# Altium footprint library Dual Zone Heater - 6mil 3mil.PcbLib: 6 footprints
Each footprint in its own frame and in the unit in brackets; x right, y up, seen from the top. Pads: shape width x height; smd on the part's side, far side on the other; paste and mask are expansions set on the pad; w line width, h text height; cw(c..) or ccw(c..) is an arc to the next point about the centre after c.
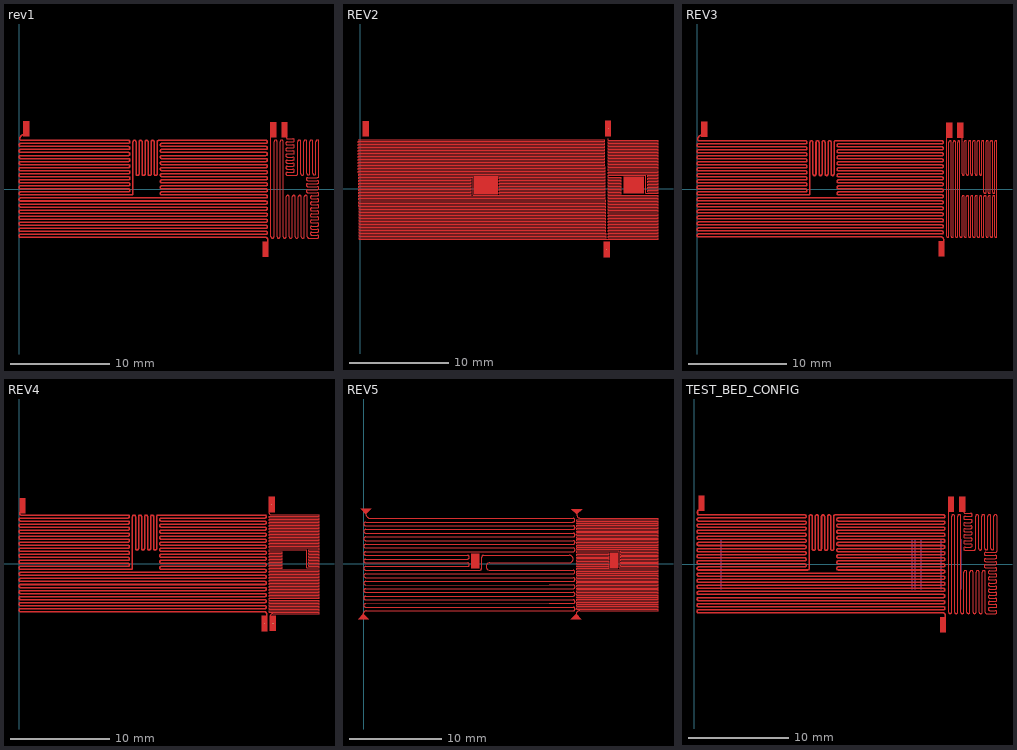
[diagram p0: the footprints below, top view; thin cyan lines are the x and y axes]

## rev1 [mil] "valve heater: 3 mil, 4.93 x 10mm / amp heater: 6 mil, 25.02 x 10mm"
pads (4):
  round 1 smd paste-99999: 1(28,239) 2(975,-238) 3(1006,235) 4(1050,235)
Top Layer:
  region: 39,209 39,269 16,269 16,209
  region: 986,-268 986,-208 963,-208 963,-268
  region: 1017,205 1017,265 994,265 994,205
  region: 1061,205 1061,265 1038,265 1038,205
  lines w3: 996,212 996,-188 ccw(c1002,-188) 1008,-188 1008,188 cw(c1014,188) 1020,188 1020,-188 ccw(c1026,-188) 1032,-188 1032,188 cw(c1038,188) 1044,188 1044,-188 ccw(c1050,-188) 1056,-188 1056,-31 cw(c1062,-31) 1068,-31 1068,-188 ccw(c1074,-188) 1080,-188 1080,-31 cw(c1086,-31) 1092,-31 1092,-188 ccw(c1098,-188) 1104,-188 1104,-31 cw(c1110,-31) 1116,-31 1116,-188 ccw(c1122,-188) 1128,-188 1128,-31 cw(c1134,-31) 1140,-31 1140,-188 ccw(c1146,-188) 1145.78,-194 1180,-194 ccw(c1180,-188) 1180,-182 1158,-182 cw(c1158,-176) 1158,-170 1180,-170 ccw(c1180,-164) 1180,-158 1158,-158 cw(c1158,-152) 1158,-146 1180,-146 ccw(c1180,-140) 1180,-134 1158,-134 cw(c1158,-128) 1158,-122 1180,-122 ccw(c1180,-116) 1180,-110 1158,-110 cw(c1158,-104) 1158,-98 1180,-98 ccw(c1180,-92) 1180,-86 1158,-86 cw(c1158,-80) 1158,-74 1180,-74 ccw(c1180,-68) 1180,-62 1158,-62 cw(c1158,-56) 1158,-50 1180,-50 ccw(c1180,-44) 1180,-38 1158,-38 cw(c1158,-32) 1158,-26 1180,-26 ccw(c1180,-20) 1180,-14 1142,-14 cw(c1142,-8) 1142,-2 1180,-2 ccw(c1180,4) 1180,10 1142,10 cw(c1142,16) 1142,22 1180,22 ccw(c1180,28) 1180,34 1142,34 cw(c1142,40) 1142,46 1180,46 ccw(c1180,52) 1186,52 1186,188 ccw(c1180,188) 1174,188 1174,61.96 cw(c1168,61.96) 1162,61.96 1162,188 ccw(c1156,188) 1150,188 1150,61.88 cw(c1144,61.88) 1138,61.88 1138,188 ccw(c1132,188) 1126,188 1126,61.1 cw(c1120,61.1) 1114,61.1 1114,188 ccw(c1108,188) 1102,188 1102,61 cw(c1096,61) 1096,55 1061,55 cw(c1061,61) 1061,67 1083,67 ccw(c1083,73) 1083,79 1061,79 cw(c1061,85) 1061,91 1082.69,91 ccw(c1082.69,97) 1082.69,103 1060.69,103 cw(c1060.69,109) 1060.69,115 1082.69,115 ccw(c1082.69,121) 1082.69,127 1060.69,127 cw(c1060.69,133) 1060.69,139 1082.69,139 ccw(c1082.69,145) 1082.69,151 1060.69,151 cw(c1060.69,157) 1060.69,163 1082.69,163 ccw(c1082.69,169) 1082.69,175 1060.69,175 cw(c1060.69,181) 1060.69,187 1082.69,187 ccw(c1082.69,193) 1082.69,199 1060.69,199 cw(c1060.69,201.69) 1058,201.69 1058,210 ccw(c1057,210) 1057,211
  lines w6: 21,217 ccw(c21,198) 2,198 ccw(c7,198) 7,193 432,193 cw(c432,187) 432,181 5,181 ccw(c5,175) 5,169 432,169 cw(c432,163) 432,157 5,157 ccw(c5,151) 5,145 433,145 ; 431,13 5,13 ccw(c5,7) 5,1 432,1 cw(c432,-5) 432,-11 5,-11 ccw(c5,-17) 5,-23 444,-23 ccw(c444,-17) 450,-17 450,187 cw(c456,187) 462,187 462,60 ccw(c468,60) 474,60 474,187 cw(c480,187) 486,187 486,60 ccw(c492,60) 498,60 498,187 cw(c504,187) 510,187 510,60 ccw(c516,60) 522,60 522,187 cw(c528,187) 534,187 ; 432,13 ccw(c432,19) 432,25 5,25 cw(c5,31) 5,37 433,37 ; 432,37 ccw(c432,43) 432,49 5,49 cw(c5,55) 5,61 432,61 ccw(c432,67) 432,73 ; 432,97 cw(c432,91) 432,85 5,85 ccw(c5,79) 5,73 433,73 ; 432,121 cw(c432,115) 432,109 5,109 ccw(c5,103) 5,97 433,97 ; 432,133 ccw(c432,139) 432,145 ; 433,121 5,121 cw(c5,127) 5,133 433,133 ; 534,186 534,60 ccw(c540,60) 546,60 546,187 cw(c552,187) 552,193 976,193 cw(c976,187) 976,181 564,181 ccw(c564,175) 564,169 976,169 cw(c976,163) 976,157 564,157 ccw(c564,151) 564,145 976,145 cw(c976,139) 976,133 564,133 ccw(c564,127) 564,121 976,121 cw(c976,115) 976,109 564,109 ccw(c564,103) 564,97 976,97 cw(c976,91) 976,85 564,85 ccw(c564,79) 564,73 976,73 cw(c976,67) 976,61 564,61 ccw(c564,55) 564,49 976,49 cw(c976,43) 976,37 564,37 ccw(c564,31) 564,25 976,25 cw(c976,19) 976,13 564,13 ccw(c564,7) 564,1 976,1 cw(c976,-5) 976,-11 564,-11 ccw(c564,-17) 564,-23 976,-23 cw(c976,-29) 976,-35 5,-35 ccw(c5,-41) 5,-47 976,-47 cw(c976,-53) 976,-59 ; 974.4,-191 cw(c974.4,-199.6) 983,-199.6 983,-214.26 ; 975,-191 5,-191 cw(c5,-185) 5,-179 976,-179 ccw(c976,-173) 976,-167 5,-167 cw(c5,-161) 5,-155 976,-155 ccw(c976,-149) 976,-143 ; 976,-83 ccw(c976,-77) 976,-71 5,-71 cw(c5,-65) 5,-59 977,-59 ; 977,-143 5,-143 cw(c5,-137) 5,-131 976,-131 ccw(c976,-125) 976,-119 5,-119 cw(c5,-113) 5,-107 976,-107 ccw(c976,-101) 976,-95 5,-95 cw(c5,-89) 5,-83 977,-83

## REV2 [mil]
pads (3):
  round 1 smd paste-99999: 1(23,238) 2(980.11,-241.88) 3(984.79,238.46)
Top Layer:
  rectangle: 453,-23.77 547,47
  rectangle: 1046,-20 1127,47
  region: 991.11,-271.88 991.11,-211.88 968.11,-211.88 968.11,-271.88
  region: 34,208 34,268 11,268 11,208
  region: 995.79,208.46 995.79,268.46 972.79,268.46 972.79,208.46
  lines w3: -8,194 24,194 971,194 971,188 947,188 -8,188 -8,182.03 971.18,182.03 971.18,176.03 947.18,176.03 -7.82,176.03 -7.82,170.06 971.36,170.06 971.36,164.06 947.36,164.06 -7.64,164.06 -7.64,158.1 971.54,158.1 971.54,152.1 947.54,152.1 -7.46,152.1 -7.46,146.13 971.72,146.13 971.72,140.13 947.72,140.13 -7.28,140.13 -7.28,134.16 971.9,134.16 971.9,128.16 947.9,128.16 -7.1,128.16 -7.1,122.19 972.08,122.19 972.08,116.19 948.08,116.19 -6.92,116.19 -6.92,110.22 972.27,110.22 972.27,104.22 948.27,104.22 -6.73,104.22 -6.73,98.26 972.45,98.26 972.45,92.26 948.45,92.26 -6.55,92.26 -6.55,86.29 972.63,86.29 972.63,80.29 948.63,80.29 -6.37,80.29 -6.37,74.32 972.81,74.32 972.81,68.32 948.81,68.32 -6.19,68.32 -6.19,62.35 972.99,62.35 972.99,56.35 948.99,56.35 -6.01,56.35 -6.01,50.38 973.17,50.38 973.17,44.38 949.17,44.38 552.14,44.38 552.14,38.42 973.35,38.42 973.35,32.42 949.35,32.42 552.32,32.42 552.32,26.45 973.53,26.45 973.53,20.45 949.53,20.45 552.5,20.45 552.5,14.48 973.71,14.48 973.71,8.48 949.71,8.48 552.68,8.48 552.68,2.51 973.89,2.51 973.89,-3.49 949.89,-3.49 552.86,-3.49 552.86,-9.46 974.07,-9.46 974.07,-15.46 950.07,-15.46 553.04,-15.46 553.04,-21.42 974.25,-21.42 974.25,-27.42 950.25,-27.42 553.23,-27.42 449.42,-27.42 449.42,44.38 -5.83,44.38 -5.83,38.42 ; -7.82,182.03 24.18,182.03 ; -7.64,170.06 24.36,170.06 ; -7.46,158.1 24.54,158.1 ; -7.28,146.13 24.72,146.13 ; -7.1,134.16 24.9,134.16 ; -6.92,122.19 25.08,122.19 ; -6.73,110.22 25.27,110.22 ; -6.55,98.26 25.45,98.26 ; -6.37,86.29 25.63,86.29 ; -6.19,74.32 25.81,74.32 ; -6.01,62.35 25.99,62.35 ; -5.83,50.38 26.17,50.38 ; -5.65,26.45 -5.65,32.42 441,32.42 441,38.42 26.35,38.42 -5.65,38.42 ; -5.47,26.45 26.53,26.45 441.05,26.45 441.05,20.45 -5.47,20.45 ; -5.29,2.51 -5.29,8.48 441.24,8.48 441.24,14.48 -5.47,14.48 ; -5.29,14.48 26.71,14.48 ; -5.11,-9.46 -5.11,-3.49 441.41,-3.49 441.41,2.51 26.89,2.51 -5.11,2.51 ; -4.93,-21.42 -4.93,-15.46 441.59,-15.46 441.59,-9.46 27.07,-9.46 -4.93,-9.46 ; -4.75,-33.39 -4.75,-27.42 441.77,-27.42 441.77,-21.42 27.25,-21.42 -4.75,-21.42 ; -4.56,-45.36 -4.56,-39.39 950.44,-39.39 974.44,-39.39 974.44,-33.39 560.4,-33.42 441.77,-33.42 ; -4.56,-33.39 27.44,-33.39 441.77,-33.39 ; -4.38,-45.36 27.62,-45.36 974.62,-45.36 974.62,-51.36 950.62,-51.36 -4.38,-51.36 -4.38,-57.33 974.8,-57.33 974.8,-63.33 950.8,-63.33 -4.2,-63.33 -4.2,-69.3 974.98,-69.3 974.98,-75.3 950.98,-75.3 -4.02,-75.3 -4.02,-81.26 975.16,-81.26 975.16,-87.26 951.16,-87.26 -3.84,-87.26 -3.84,-93.23 975.34,-93.23 975.34,-99.23 951.34,-99.23 -3.66,-99.23 -3.66,-105.2 975.52,-105.2 975.52,-111.2 951.52,-111.2 -3.48,-111.2 -3.48,-117.17 975.7,-117.17 975.7,-123.17 951.7,-123.17 -3.3,-123.17 -3.3,-129.14 975.88,-129.14 975.88,-135.14 951.88,-135.14 -3.12,-135.14 -3.12,-141.1 976.06,-141.1 976.06,-147.1 952.06,-147.1 -2.94,-147.1 -2.94,-153.07 976.24,-153.07 976.24,-159.07 952.24,-159.07 -2.76,-159.07 -2.76,-165.04 976.42,-165.04 976.42,-171.04 952.42,-171.04 -2.58,-171.04 -2.58,-177.01 976.6,-177.01 976.6,-183.01 952.6,-183.01 -2.4,-183.01 -2.4,-188.98 976.79,-188.98 976.79,-194.98 952.79,-194.98 -2.21,-194.98 -2.21,-200.94 976.97,-200.94 1180.78,-200.94 1180.9,-200.94 1183,-200.94 1183,-195 985.22,-195 985.22,-189 1183,-189 1183,-183 985.22,-183 985.22,-177 1183,-177 1183,-171 985.22,-171 985.22,-165 1183,-165 1183,-159 985.22,-159 985.22,-153 1183,-153 1183,-147 985.22,-147 985.22,-141 1183,-141 1183,-135 985.22,-135 985.22,-129 1183,-129 1183,-123 985.22,-123 985.22,-117 1183,-117 1183,-111 985.22,-111 985.22,-105 1183,-105 1183,-99 985.22,-99 985.22,-93 1183,-93 1183,-87 985.22,-87 985.22,-81 1183,-81 1183,-75 985.22,-75 985.22,-69 1183,-69 1183,-63 985.22,-63 985.22,-57 1183,-57 1183,-51 985.22,-51 985.22,-45 1183,-45 1183,-39 985.22,-39 985.22,-33 1183,-33 1183,-27 985.22,-27 985.22,-21 1037.88,-21 1037.88,-15 985.22,-15 985.22,-9 1037.88,-9 1037.88,-3 985.22,-3 985.22,3 1037.88,3 1037.88,9 985.22,9 985.22,15 1037.88,15 1037.88,21 985.22,21 985.22,27 1037.88,27 1037.88,33 985.22,33 985.22,39 1037.88,39 1037.88,45 985.22,45 985.22,53.29 1134.15,53.29 1134.15,-18.41 1183,-18.41 1183,-12.41 1142.54,-12.41 1142.54,-6.41 1183,-6.41 1183,-0.41 1142.54,-0.41 1142.54,5.59 1183,5.59 1183,11.59 1142.54,11.59 1142.54,17.59 1183,17.59 1183,23.59 1142.54,23.59 1142.54,29.59 1183,29.59 1183,35.59 1142.54,35.59 1142.54,41.59 1183,41.59 1183,47.59 1142.54,47.59 1142.54,53.59 1183,53.59 ; -4.2,-57.33 27.8,-57.33 ; -4.02,-69.3 27.98,-69.3 ; -3.84,-81.26 28.16,-81.26 ; -3.66,-93.23 28.34,-93.23 ; -3.48,-105.2 28.52,-105.2 ; -3.3,-117.17 28.7,-117.17 ; -3.12,-129.14 28.88,-129.14 ; -2.94,-141.1 29.06,-141.1 ; -2.76,-153.07 29.24,-153.07 ; -2.58,-165.04 29.42,-165.04 ; -2.4,-177.01 29.6,-177.01 ; -2.21,-188.98 29.79,-188.98 ; 985.13,197.72 985.13,191.72 1183,191.72 1183,185.72 985.13,185.72 985.13,179.72 1183,179.72 1183,173.72 985.13,173.72 985.13,167.72 1183,167.72 1183,161.72 985.13,161.72 985.13,155.72 1183,155.72 1183,149.72 985.13,149.72 985.13,143.72 1183,143.72 1183,137.72 985.13,137.72 985.13,131.72 1183,131.72 1183,125.72 985.13,125.72 985.13,119.72 1183,119.72 1183,113.72 985.13,113.72 985.13,107.72 1183,107.72 1183,101.72 985.13,101.72 985.13,95.72 1183,95.72 1183,89.72 985.13,89.72 985.13,83.72 1183,83.72 1183,77.72 985.13,77.72 985.13,71.72 1183,71.72 1183,65.72 985.13,65.72 985.13,59.72 1183,59.72 1183,53.72 ; -5.47,14.48 -5.47,20.45 ; -5.47,14.48 -5.47,20.45 ; 441.77,-33.42 441.77,-33.39

## REV3 [mil]
pads (4):
  round 1 smd paste-99999: 1(27.96,238.97) 2(974.96,-238.03) 3(1005.96,234.97) 4(1049.96,234.97)
Top Layer:
  region: 1060.96,204.97 1060.96,264.97 1037.96,264.97 1037.96,204.97
  region: 1016.96,204.97 1016.96,264.97 993.96,264.97 993.96,204.97
  region: 985.96,-268.03 985.96,-208.03 962.96,-208.03 962.96,-268.03
  region: 38.96,208.97 38.96,268.97 15.96,268.97 15.96,208.97
  lines w3: 995.96,211.97 995.96,-188.03 ccw(c1000.32,-188.59) 1004.68,-188.03 1004.68,187.97 cw(c1009.03,188.54) 1013.39,187.97 1013.39,-188.03 ccw(c1017.75,-188.59) 1022.1,-188.03 1022.1,187.97 cw(c1026.46,188.54) 1030.82,187.97 1030.82,-188.03 ccw(c1035.17,-188.59) 1039.53,-188.03 1039.53,187.97 cw(c1043.89,188.54) 1048.24,187.97 1048.24,-188.03 ccw(c1052.6,-188.59) 1056.96,-188.03 1056.96,-30.88 cw(c1061.31,-30.31) 1065.67,-30.88 1065.67,-187.88 ccw(c1070.03,-188.42) 1074.39,-187.85 1074.39,-30.85 cw(c1078.74,-30.29) 1083.1,-30.85 1083.1,-187.85 ccw(c1087.46,-188.39) 1091.82,-187.83 1091.82,-30.83 cw(c1096.18,-30.26) 1100.53,-30.83 1100.53,-187.83 ccw(c1104.89,-188.37) 1109.25,-187.8 1109.25,-30.8 cw(c1113.61,-30.23) 1117.96,-30.8 1117.96,-187.8 ccw(c1122.32,-188.34) 1126.68,-187.77 1126.68,-30.77 cw(c1131.04,-30.2) 1135.39,-30.77 1135.39,-187.77 ccw(c1139.75,-188.31) 1144.11,-187.74 1144.11,-30.74 cw(c1148.47,-30.17) 1152.82,-30.74 1152.82,-187.74 ccw(c1157.19,-188.28) 1161.54,-187.71 1161.54,-30.71 cw(c1165.9,-30.14) 1170.26,-30.71 1170.26,-187.71 ccw(c1174.62,-188.25) 1178.97,-187.68 1178.97,-30.68 cw(c1183.33,-30.11) 1187.69,-30.68 1187.69,-187.68 ccw(c1192.05,-188.22) 1196.4,-187.65 1196.4,188.84 ccw(c1192.05,189.4) 1187.69,188.84 1187.53,-12.13 cw(c1183.17,-12.7) 1178.82,-12.13 1178.98,188.84 ccw(c1174.62,189.4) 1170.26,188.84 1170.1,-12.13 cw(c1165.75,-12.7) 1161.39,-12.13 1161.55,188.84 ccw(c1157.19,189.4) 1152.84,188.84 1152.68,-12.13 cw(c1148.32,-12.7) 1143.96,-12.13 1144.12,188.84 ccw(c1139.77,189.4) 1135.41,188.84 1135.31,60.64 cw(c1130.95,60.07) 1126.59,60.64 1126.7,188.84 ccw(c1122.34,189.4) 1117.98,188.84 1117.88,60.64 cw(c1113.52,60.07) 1109.17,60.64 1109.27,188.84 ccw(c1104.91,189.4) 1100.55,188.84 1100.45,60.64 cw(c1096.1,60.07) 1091.74,60.64 1091.84,188.84 ccw(c1087.48,189.4) 1083.13,188.84 1083.02,60.64 cw(c1078.67,60.07) 1074.31,60.64 1074.41,188.84 ccw(c1070.06,189.4) 1065.7,188.84 1065.6,60.64 cw(c1061.24,60.07) 1056.88,60.64 1056.99,188.84 1056.96,188.84 1056.96,210.97 cw(c1056.96,209.97) 1057.96,209.97
  lines w6: 20.96,216.97 ccw(c20.96,197.97) 1.96,197.97 ccw(c6.96,197.97) 6.96,192.97 431.96,192.97 cw(c431.96,186.97) 431.96,180.97 4.96,180.97 ccw(c4.96,174.97) 4.96,168.97 431.96,168.97 cw(c431.96,162.97) 431.96,156.97 4.96,156.97 ccw(c4.96,150.97) 4.96,144.97 432.96,144.97 ; 430.96,12.97 4.96,12.97 ccw(c4.96,6.97) 4.96,0.97 431.96,0.97 cw(c431.96,-5.03) 431.96,-11.03 4.96,-11.03 ccw(c4.96,-17.03) 4.96,-23.03 443.96,-23.03 ccw(c443.96,-17.03) 449.96,-17.03 449.96,186.97 cw(c455.96,186.97) 461.96,186.97 461.96,59.97 ccw(c467.96,59.97) 473.96,59.97 473.96,186.97 cw(c479.96,186.97) 485.96,186.97 485.96,59.97 ccw(c491.96,59.97) 497.96,59.97 497.96,186.97 cw(c503.96,186.97) 509.96,186.97 509.96,59.97 ccw(c515.96,59.97) 521.96,59.97 521.96,186.97 cw(c527.96,186.97) 533.96,186.97 ; 431.96,12.97 ccw(c431.96,18.97) 431.96,24.97 4.96,24.97 cw(c4.96,30.97) 4.96,36.97 432.96,36.97 ; 431.96,36.97 ccw(c431.96,42.97) 431.96,48.97 4.96,48.97 cw(c4.96,54.97) 4.96,60.97 431.96,60.97 ccw(c431.96,66.97) 431.96,72.97 ; 431.96,96.97 cw(c431.96,90.97) 431.96,84.97 4.96,84.97 ccw(c4.96,78.97) 4.96,72.97 432.96,72.97 ; 431.96,120.97 cw(c431.96,114.97) 431.96,108.97 4.96,108.97 ccw(c4.96,102.97) 4.96,96.97 432.96,96.97 ; 431.96,132.97 ccw(c431.96,138.97) 431.96,144.97 ; 432.96,120.97 4.96,120.97 cw(c4.96,126.97) 4.96,132.97 432.96,132.97 ; 533.96,185.97 533.96,59.97 ccw(c539.96,59.97) 545.96,59.97 545.96,186.97 cw(c551.96,186.97) 551.96,192.97 975.96,192.97 cw(c975.96,186.97) 975.96,180.97 563.96,180.97 ccw(c563.96,174.97) 563.96,168.97 975.96,168.97 cw(c975.96,162.97) 975.96,156.97 563.96,156.97 ccw(c563.96,150.97) 563.96,144.97 975.96,144.97 cw(c975.96,138.97) 975.96,132.97 563.96,132.97 ccw(c563.96,126.97) 563.96,120.97 975.96,120.97 cw(c975.96,114.97) 975.96,108.97 563.96,108.97 ccw(c563.96,102.97) 563.96,96.97 975.96,96.97 cw(c975.96,90.97) 975.96,84.97 563.96,84.97 ccw(c563.96,78.97) 563.96,72.97 975.96,72.97 cw(c975.96,66.97) 975.96,60.97 563.96,60.97 ccw(c563.96,54.97) 563.96,48.97 975.96,48.97 cw(c975.96,42.97) 975.96,36.97 563.96,36.97 ccw(c563.96,30.97) 563.96,24.97 975.96,24.97 cw(c975.96,18.97) 975.96,12.97 563.96,12.97 ccw(c563.96,6.97) 563.96,0.97 975.96,0.97 cw(c975.96,-5.03) 975.96,-11.03 563.96,-11.03 ccw(c563.96,-17.03) 563.96,-23.03 975.96,-23.03 cw(c975.96,-29.03) 975.96,-35.03 4.96,-35.03 ccw(c4.96,-41.03) 4.96,-47.03 975.96,-47.03 cw(c975.96,-53.03) 975.96,-59.03 ; 974.36,-191.03 cw(c974.36,-199.63) 982.96,-199.63 982.96,-214.29 ; 974.96,-191.03 4.96,-191.03 cw(c4.96,-185.03) 4.96,-179.03 975.96,-179.03 ccw(c975.96,-173.03) 975.96,-167.03 4.96,-167.03 cw(c4.96,-161.03) 4.96,-155.03 975.96,-155.03 ccw(c975.96,-149.03) 975.96,-143.03 ; 975.96,-83.03 ccw(c975.96,-77.03) 975.96,-71.03 4.96,-71.03 cw(c4.96,-65.03) 4.96,-59.03 976.96,-59.03 ; 976.96,-143.03 4.96,-143.03 cw(c4.96,-137.03) 4.96,-131.03 975.96,-131.03 ccw(c975.96,-125.03) 975.96,-119.03 4.96,-119.03 cw(c4.96,-113.03) 4.96,-107.03 975.96,-107.03 ccw(c975.96,-101.03) 975.96,-95.03 4.96,-95.03 cw(c4.96,-89.03) 4.96,-83.03 976.96,-83.03
Bottom 3D Body:
  lines w3: 1056.96,188.84 1056.99,188.84

## REV4 [mil]
pads (4):
  round 1 smd paste-99999: 1(13.17,230.42) 2(975.09,-238.08) 3(1003.64,234.84) 4(1008.44,-237.82)
Top Layer:
  region: 986.09,-268.08 986.09,-208.08 963.09,-208.08 963.09,-268.08
  region: 1019.44,-267.82 1019.44,-207.82 996.44,-207.82 996.44,-267.82
  region: 1014.64,204.84 1014.64,264.84 991.64,264.84 991.64,204.84
  region: 24.17,200.42 24.17,260.42 1.17,260.42 1.17,200.42
  lines w3: 993.64,212.28 993.64,199.78 ccw(c999.4,199.78) 999.4,194.03 1191.27,194.03 1191.27,188.03 993.4,188.03 993.4,182.03 1191.27,182.03 1191.27,176.03 993.4,176.03 993.4,170.03 1191.27,170.03 1191.27,164.03 993.4,164.03 993.4,158.03 1191.27,158.03 1191.27,152.03 993.4,152.03 993.4,146.03 1191.27,146.03 1191.27,140.03 993.4,140.03 993.4,134.03 1191.27,134.03 1191.27,128.03 993.4,128.03 993.4,122.03 1191.27,122.03 1191.27,116.03 993.4,116.03 993.4,110.03 1191.27,110.03 1191.27,104.03 993.4,104.03 993.4,98.03 1191.27,98.03 1191.27,92.03 993.4,92.03 993.4,86.03 1191.27,86.03 1191.27,80.03 993.4,80.03 993.4,74.03 1191.27,74.03 1191.27,68.03 993.4,68.03 993.4,62.03 1191.27,62.03 1191.27,56.03 ; 997.92,-207.92 cw(c1007.21,-207.92) 1007.21,-198.63 1189.05,-198.63 1189.17,-198.63 1191.27,-198.63 1191.27,-192.69 993.49,-192.69 993.49,-186.69 1191.27,-186.69 1191.27,-180.69 993.49,-180.69 993.49,-174.69 1191.27,-174.69 1191.27,-168.69 993.49,-168.69 993.49,-162.69 1191.27,-162.69 1191.27,-156.69 993.49,-156.69 993.49,-150.69 1191.27,-150.69 1191.27,-144.69 993.49,-144.69 993.49,-138.69 1191.27,-138.69 1191.27,-132.69 993.49,-132.69 993.49,-126.69 1191.27,-126.69 1191.27,-120.69 993.49,-120.69 993.49,-114.69 1191.27,-114.69 1191.27,-108.69 993.49,-108.69 993.49,-102.69 1191.27,-102.69 1191.27,-96.69 993.49,-96.69 993.49,-90.69 1191.27,-90.69 1191.27,-84.69 993.49,-84.69 993.49,-78.69 1191.27,-78.69 1191.27,-72.69 993.49,-72.69 993.49,-66.69 1191.27,-66.69 1191.27,-60.69 993.49,-60.69 993.49,-54.69 1191.27,-54.69 1191.27,-48.69 993.49,-48.69 993.49,-42.69 1191.27,-42.69 1191.27,-36.69 993.49,-36.69 993.49,-30.69 1191.27,-30.69 1191.27,-24.69 993.49,-24.69 993.49,-18.69 1046.15,-18.69 1046.15,-12.69 993.49,-12.69 993.49,-6.69 1046.15,-6.69 1046.15,-0.69 993.49,-0.69 993.49,5.31 1046.15,5.31 1046.15,11.31 993.49,11.31 993.49,17.31 1046.15,17.31 1046.15,23.31 993.49,23.31 993.49,29.31 1046.15,29.31 1046.15,35.31 993.49,35.31 993.49,41.31 1046.15,41.31 1046.15,47.31 993.49,47.31 993.49,55.6 1142.42,55.6 1142.42,-16.1 1191.27,-16.1 1191.27,-10.1 1150.81,-10.1 1150.81,-4.1 1191.27,-4.1 1191.27,1.9 1150.81,1.9 1150.81,7.9 1191.27,7.9 1191.27,13.9 1150.81,13.9 1150.81,19.9 1191.27,19.9 1191.27,25.9 1150.81,25.9 1150.81,31.9 1191.27,31.9 1191.27,37.9 1150.81,37.9 1150.81,43.9 1191.27,43.9 1191.27,49.9 1150.81,49.9 1150.81,55.9 1191.27,55.9
  lines w6: 21.09,216.92 ccw(c21.09,197.92) 2.09,197.92 ccw(c7.09,197.92) 7.09,192.92 432.09,192.92 cw(c432.09,186.92) 432.09,180.92 5.09,180.92 ccw(c5.09,174.92) 5.09,168.92 432.09,168.92 cw(c432.09,162.92) 432.09,156.92 5.09,156.92 ccw(c5.09,150.92) 5.09,144.92 433.09,144.92 ; 431.09,12.92 5.09,12.92 ccw(c5.09,6.92) 5.09,0.92 432.09,0.92 cw(c432.09,-5.08) 432.09,-11.08 5.09,-11.08 ccw(c5.09,-17.08) 5.09,-23.08 444.09,-23.08 ccw(c444.09,-17.08) 450.09,-17.08 450.09,186.92 cw(c456.09,186.92) 462.09,186.92 462.09,59.92 ccw(c468.09,59.92) 474.09,59.92 474.09,186.92 cw(c480.09,186.92) 486.09,186.92 486.09,59.92 ccw(c492.09,59.92) 498.09,59.92 498.09,186.92 cw(c504.09,186.92) 510.09,186.92 510.09,59.92 ccw(c516.09,59.92) 522.09,59.92 522.09,186.92 cw(c528.09,186.92) 534.09,186.92 ; 432.09,12.92 ccw(c432.09,18.92) 432.09,24.92 5.09,24.92 cw(c5.09,30.92) 5.09,36.92 433.09,36.92 ; 432.09,36.92 ccw(c432.09,42.92) 432.09,48.92 5.09,48.92 cw(c5.09,54.92) 5.09,60.92 432.09,60.92 ccw(c432.09,66.92) 432.09,72.92 ; 432.09,96.92 cw(c432.09,90.92) 432.09,84.92 5.09,84.92 ccw(c5.09,78.92) 5.09,72.92 433.09,72.92 ; 432.09,120.92 cw(c432.09,114.92) 432.09,108.92 5.09,108.92 ccw(c5.09,102.92) 5.09,96.92 433.09,96.92 ; 432.09,132.92 ccw(c432.09,138.92) 432.09,144.92 ; 433.09,120.92 5.09,120.92 cw(c5.09,126.92) 5.09,132.92 433.09,132.92 ; 534.09,185.92 534.09,59.92 ccw(c540.09,59.92) 546.09,59.92 546.09,186.92 cw(c552.09,186.92) 552.09,192.92 976.09,192.92 cw(c976.09,186.92) 976.09,180.92 564.09,180.92 ccw(c564.09,174.92) 564.09,168.92 976.09,168.92 cw(c976.09,162.92) 976.09,156.92 564.09,156.92 ccw(c564.09,150.92) 564.09,144.92 976.09,144.92 cw(c976.09,138.92) 976.09,132.92 564.09,132.92 ccw(c564.09,126.92) 564.09,120.92 976.09,120.92 cw(c976.09,114.92) 976.09,108.92 564.09,108.92 ccw(c564.09,102.92) 564.09,96.92 976.09,96.92 cw(c976.09,90.92) 976.09,84.92 564.09,84.92 ccw(c564.09,78.92) 564.09,72.92 976.09,72.92 cw(c976.09,66.92) 976.09,60.92 564.09,60.92 ccw(c564.09,54.92) 564.09,48.92 976.09,48.92 cw(c976.09,42.92) 976.09,36.92 564.09,36.92 ccw(c564.09,30.92) 564.09,24.92 976.09,24.92 cw(c976.09,18.92) 976.09,12.92 564.09,12.92 ccw(c564.09,6.92) 564.09,0.92 976.09,0.92 cw(c976.09,-5.08) 976.09,-11.08 564.09,-11.08 ccw(c564.09,-17.08) 564.09,-23.08 976.09,-23.08 cw(c976.09,-29.08) 976.09,-35.08 5.09,-35.08 ccw(c5.09,-41.08) 5.09,-47.08 976.09,-47.08 cw(c976.09,-53.08) 976.09,-59.08 ; 974.49,-191.08 cw(c974.49,-199.68) 983.09,-199.68 983.09,-214.34 ; 975.09,-191.08 5.09,-191.08 cw(c5.09,-185.08) 5.09,-179.08 976.09,-179.08 ccw(c976.09,-173.08) 976.09,-167.08 5.09,-167.08 cw(c5.09,-161.08) 5.09,-155.08 976.09,-155.08 ccw(c976.09,-149.08) 976.09,-143.08 ; 976.09,-83.08 ccw(c976.09,-77.08) 976.09,-71.08 5.09,-71.08 cw(c5.09,-65.08) 5.09,-59.08 977.09,-59.08 ; 977.09,-143.08 5.09,-143.08 cw(c5.09,-137.08) 5.09,-131.08 976.09,-131.08 ccw(c976.09,-125.08) 976.09,-119.08 5.09,-119.08 cw(c5.09,-113.08) 5.09,-107.08 976.09,-107.08 ccw(c976.09,-101.08) 976.09,-95.08 5.09,-95.08 cw(c5.09,-89.08) 5.09,-83.08 977.09,-83.08

## REV5 [mil]
pads (4):
  round 1 smd paste-99999 mask+4: 1(9.04,223.46) 2(-1.94,-223.16) 3(906.22,221.67) 4(903.25,-223.92)
Top Layer:
  rectangle: 1048.42,-19.64 1081.51,47.65
  rectangle: 456.26,-19.12 493.41,43.6
  region: 903.25,-212.67 925.75,-235.17 880.75,-235.17
  region: 906.22,210.42 883.72,232.92 928.72,232.92
  region: 9.04,212.21 -13.46,234.71 31.54,234.71
  region: -1.94,-211.9 20.56,-234.41 20.55,-234.41 -24.45,-234.41
  lines w3: -2.28,-223.14 -1.72,-212.76 ; 8.44,-26.52 cw(c8.44,-18.64) 8.44,-10.77 441.74,-10.66 ccw(c441.74,-2.78) 441.74,5.09 8.44,4.98 cw(c8.44,12.85) 8.44,20.73 441.74,20.84 ccw(c441.74,28.71) 441.74,36.59 8.44,36.48 cw(c8.44,44.35) 8.44,52.22 789.87,52.43 890.51,52.43 ; 8.44,-26.47 493.78,-26.34 ccw(c493.78,-18.58) 501.47,-17.48 501.47,27.55 cw(c509.17,28.64) 509.17,36.41 874.94,36.51 cw(c874.94,20.76) 874.94,5.01 536.15,4.92 ccw(c536.15,-10.83) 536.15,-26.58 890.53,-26.49 ; 8.82,213.06 ccw(c27.72,213.06) 27.72,194.16 779.28,194.16 879.91,194.16 889.45,194.16 890.51,194.16 cw(c890.51,186.28) 890.51,178.41 789.87,178.41 8.44,178.21 ccw(c8.44,170.33) 8.44,162.46 789.87,162.66 890.51,162.66 ; 890.51,68.17 789.87,68.17 8.44,67.97 cw(c8.44,75.85) 8.44,83.72 789.87,83.92 890.51,83.92 ; 890.51,99.67 789.87,99.67 8.44,99.47 cw(c8.44,107.34) 8.44,115.22 789.87,115.42 890.51,115.42 ; 890.51,131.17 789.87,131.17 8.44,130.96 cw(c8.44,138.84) 8.44,146.71 789.87,146.91 890.51,146.91 ; 890.53,-199.66 789.9,-199.66 11.17,-199.86 ccw(c11.17,-212.76) -1.72,-212.76 ; 890.53,-183.91 789.9,-183.91 8.46,-184.11 cw(c8.46,-176.24) 8.46,-168.37 789.9,-168.16 890.53,-168.16 ; 890.53,-152.42 789.9,-152.42 8.46,-152.62 cw(c8.46,-144.74) 8.46,-136.87 789.9,-136.67 890.53,-136.67 ; 890.53,-120.92 789.9,-120.92 8.46,-121.12 cw(c8.46,-113.25) 8.46,-105.37 789.9,-105.17 890.53,-105.17 ; 890.53,-89.42 789.9,-89.42 8.46,-89.63 cw(c8.46,-81.75) 8.46,-73.88 789.9,-73.68 890.53,-73.68 ; 890.53,-57.93 789.9,-57.93 8.46,-58.13 cw(c8.46,-50.26) 8.46,-42.38 789.9,-42.18 890.53,-42.18 ccw(c890.53,-34.31) 890.53,-26.43 ; 891.06,-199.66 ccw(c891.06,-191.79) 891.06,-183.91 ; 891.06,-168.16 ccw(c891.06,-160.29) 891.06,-152.42 ; 891.06,-136.67 ccw(c891.06,-128.79) 891.06,-120.92 ; 891.06,-105.17 ccw(c891.06,-97.3) 891.06,-89.42 ; 891.06,-73.68 ccw(c891.06,-65.8) 891.06,-57.93 ; 891.03,52.43 ccw(c891.03,60.3) 891.03,68.17 ; 891.03,83.92 ccw(c891.03,91.8) 891.03,99.67 ; 891.03,115.42 ccw(c891.03,123.29) 891.03,131.17 ; 891.03,146.91 ccw(c891.03,154.79) 891.03,162.66 ; 903.3,-214.73 cw(c919.44,-214.73) 919.44,-198.58 925.74,-198.58 1188.97,-198.58 1189.08,-198.58 1252,-198.58 1252,-192.64 982.62,-192.64 ccw(c982.6,-192.64) 982.6,-192.62 906.09,-192.62 906.09,-186.62 ; 906,212.28 ccw(c924.2,212.28) 924.2,194.08 949.94,194.08 1252,194.08 1252,188.1 906,188.1 906,182.1 984.99,182.1 ; 906.11,-186.64 982.62,-186.64 1252,-186.64 1252,-180.64 982.62,-180.64 ccw(c982.6,-180.64) 982.6,-180.62 906.09,-180.62 ; 906.11,-180.64 906.11,-174.64 982.62,-174.64 1252,-174.64 1252,-168.64 982.62,-168.64 ccw(c982.6,-168.64) 982.6,-168.62 906.09,-168.62 ; 906.11,-168.64 906.11,-162.64 982.62,-162.64 1252,-162.64 1252,-156.64 982.62,-156.64 ccw(c982.6,-156.64) 982.6,-156.62 906.09,-156.62 ; 906.11,-156.64 906.11,-150.64 982.62,-150.64 1252,-150.64 1252,-144.64 982.62,-144.64 ccw(c982.6,-144.64) 982.6,-144.62 906.09,-144.62 ; 906.11,-144.64 906.11,-138.64 982.62,-138.64 1252,-138.64 1252,-132.64 982.62,-132.64 ccw(c982.6,-132.64) 982.6,-132.62 906.09,-132.62 ; 906.11,-132.64 906.11,-126.64 982.62,-126.64 1252,-126.64 1252,-120.64 982.62,-120.64 ccw(c982.6,-120.64) 982.6,-120.62 906.09,-120.62 ; 906.11,-120.64 906.11,-114.64 982.62,-114.64 1252,-114.64 1252,-108.64 982.62,-108.64 ccw(c982.6,-108.64) 982.6,-108.62 906.09,-108.62 ; 906.11,-108.64 906.11,-102.64 982.62,-102.64 1252,-102.64 1252,-96.64 982.62,-96.64 ccw(c982.6,-96.64) 982.6,-96.62 906.09,-96.62 ; 906.11,-96.64 906.11,-90.64 982.62,-90.64 1252,-90.64 1252,-84.64 982.62,-84.64 ccw(c982.6,-84.64) 982.6,-84.62 906.09,-84.62 906.09,-78.62 982.6,-78.62 cw(c982.6,-78.64) 982.62,-78.64 1252,-78.64 1252,-72.64 982.62,-72.64 ccw(c982.6,-72.64) 982.6,-72.62 906.09,-72.62 906.09,-66.62 982.6,-66.62 cw(c982.6,-66.64) 982.62,-66.64 1252,-66.64 1252,-60.64 982.62,-60.64 ccw(c982.6,-60.64) 982.6,-60.62 906.09,-60.62 906.09,-54.62 982.6,-54.62 cw(c982.6,-54.64) 982.62,-54.64 1252,-54.64 1252,-48.64 982.62,-48.64 ccw(c982.6,-48.64) 982.6,-48.62 906.09,-48.62 906.09,-42.62 982.6,-42.62 cw(c982.6,-42.64) 982.62,-42.64 1252,-42.64 1252,-36.64 982.62,-36.64 ccw(c982.6,-36.64) 982.6,-36.62 906.09,-36.62 906.09,-30.62 982.6,-30.62 cw(c982.6,-30.64) 982.62,-30.64 1252,-30.64 1252,-24.64 982.62,-24.64 ccw(c982.6,-24.64) 982.6,-24.62 906.09,-24.62 906.09,-18.62 982.6,-18.62 cw(c982.6,-18.64) 982.62,-18.64 1043.54,-18.64 1043.54,-12.64 982.62,-12.64 ccw(c982.6,-12.64) 982.6,-12.62 906.09,-12.62 906.09,-6.62 982.6,-6.62 cw(c982.6,-6.64) 982.62,-6.64 1043.54,-6.64 1043.54,-0.64 982.62,-0.64 ccw(c982.6,-0.64) 982.6,-0.62 906.09,-0.62 906.09,5.38 982.6,5.38 cw(c982.6,5.36) 982.62,5.36 1043.54,5.36 1043.54,11.36 982.62,11.36 ccw(c982.6,11.36) 982.6,11.38 906.09,11.38 906.09,17.38 982.6,17.38 cw(c982.6,17.36) 982.62,17.36 1043.54,17.36 1043.54,23.36 982.62,23.36 ccw(c982.6,23.36) 982.6,23.38 906.09,23.38 906.09,29.38 982.6,29.38 cw(c982.6,29.36) 982.62,29.36 1043.54,29.36 1043.54,35.36 982.62,35.36 ccw(c982.6,35.36) 982.6,35.38 906.09,35.38 906.09,41.38 982.6,41.38 cw(c982.6,41.36) 982.62,41.36 1043.54,41.36 1043.54,47.36 982.62,47.36 ccw(c982.6,47.36) 982.6,47.38 906.09,47.38 906.09,55.68 982.6,55.68 cw(c982.6,55.66) 982.62,55.66 1086.15,55.66 1086.15,-16.05 1252,-16.05 1252,-10.05 1094.18,-10.05 ; 982.53,170.08 1252,170.08 1252,164.08 982.53,164.08 ccw(c982.51,164.08) 982.51,164.1 906,164.1 906,158.1 982.51,158.1 cw(c982.51,158.08) 982.53,158.08 1252,158.08 1252,152.08 982.53,152.08 ccw(c982.51,152.08) 982.51,152.1 906,152.1 906,146.1 982.51,146.1 cw(c982.51,146.08) 982.53,146.08 1252,146.08 1252,140.08 982.53,140.08 ccw(c982.51,140.08) 982.51,140.1 906,140.1 906,134.1 982.51,134.1 cw(c982.51,134.08) 982.53,134.08 1252,134.08 1252,128.08 982.53,128.08 ccw(c982.51,128.08) 982.51,128.1 906,128.1 906,122.1 982.51,122.1 cw(c982.51,122.08) 982.53,122.08 1252,122.08 1252,116.08 982.53,116.08 ccw(c982.51,116.08) 982.51,116.1 906,116.1 906,110.1 982.51,110.1 cw(c982.51,110.08) 982.53,110.08 1252,110.08 1252,104.08 982.53,104.08 ccw(c982.51,104.08) 982.51,104.1 906,104.1 906,98.1 982.51,98.1 cw(c982.51,98.08) 982.53,98.08 1252,98.08 1252,92.08 982.53,92.08 ccw(c982.51,92.08) 982.51,92.1 906,92.1 906,86.1 982.51,86.1 cw(c982.51,86.08) 982.53,86.08 1252,86.08 1252,80.08 982.53,80.08 ccw(c982.51,80.08) 982.51,80.1 906,80.1 906,74.1 982.51,74.1 cw(c982.51,74.08) 982.53,74.08 1252,74.08 1252,68.08 982.53,68.08 ccw(c982.51,68.08) 982.51,68.1 906,68.1 906,62.1 982.51,62.1 cw(c982.51,62.08) 982.53,62.08 1252,62.08 1252,55.95 1094.18,55.95 ; 982.53,176.08 1252,176.08 1252,182.08 982.53,182.08 ; 1094.18,-9.85 1094.18,-3.85 ; 1094.18,-4.05 1252,-4.05 1252,1.95 1094.18,1.95 ; 1094.18,2.15 1094.18,8.15 ; 1094.18,7.95 1252,7.95 1252,13.95 1094.18,13.95 ; 1094.18,14.15 1094.18,20.15 ; 1094.18,19.95 1252,19.95 1252,25.95 1094.18,25.95 ; 1094.18,26.15 1094.18,32.15 ; 1094.18,31.95 1252,31.95 1252,37.95 1094.18,37.95 ; 1094.18,38.15 1094.18,44.15 ; 1094.18,43.95 1252,43.95 1252,49.95 1094.18,49.95 ; 1094.18,50.15 1094.18,56.15 ; -1.72,-212.76 -1.94,-223.16 -1.72,-212.76 ; 985.01,170.08 ccw(c984.99,170.08) 984.99,170.1 ; 984.99,170.1 906,170.1 906,176.1 984.99,176.1 ; 985.01,176.08 ccw(c984.99,176.08) 984.99,176.1 ; 985.01,182.08 ccw(c984.99,182.08) 984.99,182.1

## TEST_BED_CONFIG [mil] "valve heater: 3 mil, 4.93 x 10mm / amp heater: 6 mil, 24.84 x 10mm"
pads (4):
  round 1 smd paste-99999: 1(28,239) 2(975,-238) 3(1006,235) 4(1050,235)
Top Layer:
  region: 39,209 39,269 16,269 16,209
  region: 986,-268 986,-208 963,-208 963,-268
  region: 1017,205 1017,265 994,265 994,205
  region: 1061,205 1061,265 1038,265 1038,205
  lines w3: 996,212 996,-188 ccw(c1002,-188) 1008,-188 1008,188 cw(c1014,188) 1020,188 1020,-188 ccw(c1026,-188) 1032,-188 1032,188 cw(c1038,188) 1044,188 1044,-188 ccw(c1050,-188) 1056,-188 1056,-31 cw(c1062,-31) 1068,-31 1068,-188 ccw(c1074,-188) 1080,-188 1080,-31 cw(c1086,-31) 1092,-31 1092,-188 ccw(c1098,-188) 1104,-188 1104,-31 cw(c1110,-31) 1116,-31 1116,-188 ccw(c1122,-188) 1128,-188 1128,-31 cw(c1134,-31) 1140,-31 1140,-188 ccw(c1146,-188) 1145.78,-194 1180,-194 ccw(c1180,-188) 1180,-182 1158,-182 cw(c1158,-176) 1158,-170 1180,-170 ccw(c1180,-164) 1180,-158 1158,-158 cw(c1158,-152) 1158,-146 1180,-146 ccw(c1180,-140) 1180,-134 1158,-134 cw(c1158,-128) 1158,-122 1180,-122 ccw(c1180,-116) 1180,-110 1158,-110 cw(c1158,-104) 1158,-98 1180,-98 ccw(c1180,-92) 1180,-86 1158,-86 cw(c1158,-80) 1158,-74 1180,-74 ccw(c1180,-68) 1180,-62 1158,-62 cw(c1158,-56) 1158,-50 1180,-50 ccw(c1180,-44) 1180,-38 1158,-38 cw(c1158,-32) 1158,-26 1180,-26 ccw(c1180,-20) 1180,-14 1142,-14 cw(c1142,-8) 1142,-2 1180,-2 ccw(c1180,4) 1180,10 1142,10 cw(c1142,16) 1142,22 1180,22 ccw(c1180,28) 1180,34 1142,34 cw(c1142,40) 1142,46 1180,46 ccw(c1180,52) 1186,52 1186,188 ccw(c1180,188) 1174,188 1174,61.96 cw(c1168,61.96) 1162,61.96 1162,188 ccw(c1156,188) 1150,188 1150,61.88 cw(c1144,61.88) 1138,61.88 1138,188 ccw(c1132,188) 1126,188 1126,61.1 cw(c1120,61.1) 1114,61.1 1114,188 ccw(c1108,188) 1102,188 1102,61 cw(c1096,61) 1096,55 1061,55 cw(c1061,61) 1061,67 1083,67 ccw(c1083,73) 1083,79 1061,79 cw(c1061,85) 1061,91 1082.69,91 ccw(c1082.69,97) 1082.69,103 1060.69,103 cw(c1060.69,109) 1060.69,115 1082.69,115 ccw(c1082.69,121) 1082.69,127 1060.69,127 cw(c1060.69,133) 1060.69,139 1082.69,139 ccw(c1082.69,145) 1082.69,151 1060.69,151 cw(c1060.69,157) 1060.69,163 1082.69,163 ccw(c1082.69,169) 1082.69,175 1060.69,175 cw(c1060.69,181) 1060.69,187 1082.69,187 ccw(c1082.69,193) 1082.69,199 1060.69,199 cw(c1060.69,201.69) 1058,201.69 1058,210 ccw(c1057,210) 1057,211
  lines w6: 19,212 ccw(c19,205) 12,205 12,199 ccw(c18,199) 18,193 432,193 cw(c432,187) 432,181 16,181 ccw(c16,175) 16,169 432,169 cw(c432,163) 432,157 16,157 ccw(c16,151) 16,145 432,145 cw(c432,139) 432,133 16,133 ccw(c16,127) 16,121 432,121 cw(c432,115) 432,109 16,109 ccw(c16,103) 16,97 432,97 cw(c432,91) 432,85 16,85 ccw(c16,79) 16,73 432,73 cw(c432,67) 432,61 16,61 ccw(c16,55) 16,49 432,49 cw(c432,43) 432,37 16,37 ccw(c16,31) 16,25 432,25 cw(c432,19) 432,13 16,13 ccw(c16,7) 16,1 432,1 cw(c432,-5) 432,-11 16,-11 ccw(c16,-17) 16,-23 444,-23 ccw(c444,-17) 450,-17 450,187 cw(c456,187) 462,187 462,60 ccw(c468,60) 474,60 474,187 cw(c480,187) 486,187 486,60 ccw(c492,60) 498,60 498,187 cw(c504,187) 510,187 510,60 ccw(c516,60) 522,60 522,187 cw(c528,187) 534,187 ; 534,186 534,60 ccw(c540,60) 546,60 546,187 cw(c552,187) 552,193 976,193 cw(c976,187) 976,181 564,181 ccw(c564,175) 564,169 976,169 cw(c976,163) 976,157 564,157 ccw(c564,151) 564,145 976,145 cw(c976,139) 976,133 564,133 ccw(c564,127) 564,121 976,121 cw(c976,115) 976,109 564,109 ccw(c564,103) 564,97 976,97 cw(c976,91) 976,85 564,85 ccw(c564,79) 564,73 976,73 cw(c976,67) 976,61 564,61 ccw(c564,55) 564,49 976,49 cw(c976,43) 976,37 564,37 ccw(c564,31) 564,25 976,25 cw(c976,19) 976,13 564,13 ccw(c564,7) 564,1 976,1 cw(c976,-5) 976,-11 564,-11 ccw(c564,-17) 564,-23 976,-23 cw(c976,-29) 976,-35 16,-35 ccw(c16,-41) 16,-47 976,-47 cw(c976,-53) 976,-59 16,-59 ccw(c16,-65) 16,-71 976,-71 cw(c976,-77) 976,-83 16,-83 ccw(c16,-89) 16,-95 976,-95 cw(c976,-101) 976,-107 16,-107 ccw(c16,-113) 16,-119 976,-119 cw(c976,-125) 976,-131 16,-131 ccw(c16,-137) 16,-143 976,-143 cw(c976,-149) 976,-155 16,-155 ccw(c16,-161) 16,-167 976,-167 cw(c976,-173) 976,-179 16,-179 ccw(c16,-185) 16,-191 974.4,-191 cw(c974.4,-199.6) 983,-199.6 983,-214.26
Mechanical 12:
  lines w0.5: 105.31,-98.43 105.31,98.43 ; 853.66,-98.43 853.66,98.43 ; 866.09,-98.43 866.09,98.43 ; 888.82,-98.43 888.82,98.43 ; 967.56,-98.43 967.56,98.43 ; 1046.26,-98.43 1046.26,98.43